# EAGLE library part PCA9501 (library di_ic)
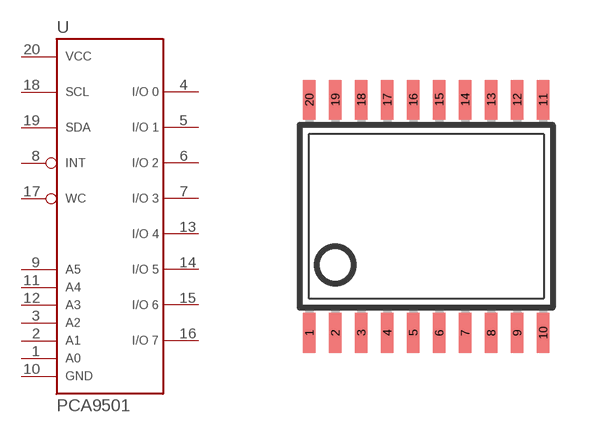
[diagram p34: symbol with the pads of TSSOP20; footprint TSSOP20]

Designator prefix -

## PCA9501  [TSSOP20]
1  A0
2  A1
3  A2
4  I/O_0
5  I/O_1
6  I/O_2
7  I/O_3
8  INT  out
9  A5
10  GND  pwr
11  A4
12  A3
13  I/O_4
14  I/O_5
15  I/O_6
16  I/O_7
17  WC  in
18  SCL  in
19  SDA
20  VCC  pwr

## Footprint TSSOP20 (pad centres in mm)
Thin Shrink Small Outline Plastic 20 MAX3223-MAX3243.pdf
smd 0.305 x 0.991: 1 -2.925,-2.918; 2 -2.275,-2.918; 3 -1.625,-2.918; 4 -0.975,-2.918; 5 -0.325,-2.918; 6 0.325,-2.918; 7 0.975,-2.918; 8 1.625,-2.918; 9 2.275,-2.918; 10 2.925,-2.918; 11 2.925,2.918; 12 2.275,2.918; 13 1.625,2.918; 14 0.975,2.918; 15 0.325,2.918; 16 -0.325,2.918; 17 -0.975,2.918; 18 -1.625,2.918; 19 -2.275,2.918; 20 -2.925,2.918